# Altium schematic symbol library Jumper.SchLib: 26 symbols
Pins are listed as number, name and electrical type; pins without a type are passive.

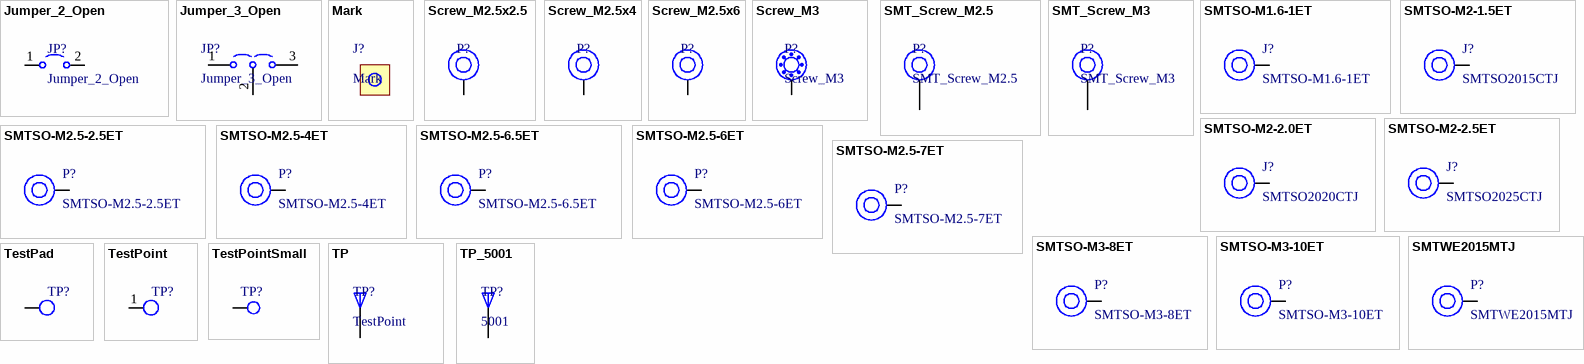
[diagram p0: symbols Jumper_2_Open to TP_5001]

## Jumper_2_Open
designator JP?  (no BOM)
Jumper, 2-pole, open
footprint SolderJumper-2_P1.3mm_Open_RoundedPad1.0x1.5mm
footprint JUMPER_OPEN_2P_1mm
pins: 1, 2

## Jumper_3_Open
designator JP?  (no BOM)
Jumper, 3-pole, open
footprint SolderJumper-3_P1.3mm_Open_RoundedPad1.0x1.5mm
footprint Jumper-3_0402
pins: 1, 2, 3

## Mark
designator J?  (no BOM)
footprint MARK_1mm

## Screw_M2.5x2.5
designator P?  (value not drawn)
footprint M2.5-2.5mm (SMT Steel Spacer, M2.5 Thread Internal, 6mm)
pins: 1

## Screw_M2.5x4
designator P?  (value not drawn)
footprint M2.5-4mm (SMT Steel Spacer, M2.5 Thread Internal, 4mm)
pins: 1

## Screw_M2.5x6
designator P?  (value not drawn)
footprint M2.5-6mm (SMT Steel Spacer, M2.5 Thread Internal, 6mm)
pins: 1

## Screw_M3
designator P?
footprint SCREW_M3
pins: 1

## SMT_Screw_M2.5
designator P?
footprint SMT_Screw_M2.5
pins: 1

## SMT_Screw_M3
designator P?
footprint SMT_SCREW_M3
pins: 1

## SMTSO-M1.6-1ET
designator J?
footprint SMTSO-M1.6-1ET (SMTSO-M2.5-2.5ET)
pins: 1

## SMTSO-M2-1.5ET
designator J?, comment SMTSO2015CTJ
SMT螺母 M2.0 H1.5mm
footprint SMTSO-M2-1.5ET
pins: 1

## SMTSO-M2-2.0ET
designator J?, comment SMTSO2020CTJ
SMT螺母 M2.0 H2.0mm
footprint SMTSO-M2-2.0ET
pins: 1

## SMTSO-M2-2.5ET
designator J?, comment SMTSO2025CTJ
SMT螺母 M2.0 H2.5mm
footprint SMTSO-M2-2.5ET
pins: 1

## SMTSO-M2.5-2.5ET
designator P?
SMT螺母 SMTSO-M2.5-2.5ET
footprint SMTSO-M2.5-2.5ET
pins: 1

## SMTSO-M2.5-4ET
designator P?
SMT螺母 SMTSO-M2.5-4ET
footprint SMTSO-M2.5-4ET (Footprint not found)
pins: 1

## SMTSO-M2.5-6.5ET
designator P?
SMT螺母 SMTSO-M2.5-6.5ET
footprint SMTSO-M2.5-6.5ET
pins: 1

## SMTSO-M2.5-6ET
designator P?
SMT螺母 SMTSO-M2.5-6ET
footprint SMTSO-M2.5-6ET
pins: 1

## SMTSO-M2.5-7ET
designator P?
SMT螺母 SMTSO-M2.5-7ET
footprint SMTSO-M2.5-7ET
pins: 1

## SMTSO-M3-8ET
designator P?
SMT螺母 SMTSO-M3-8ET
footprint SMTSO-M3-8ET (SMTSO-M2.5-7ET)
pins: 1

## SMTSO-M3-10ET
designator P?
SMT螺母 SMTSO-M3-10ET
footprint SMTSO-M3-10ET (SMTSO-M2.5-7ET)
pins: 1

## SMTWE2015MTJ
designator P?
SMT螺母，M2*4.35*1.5+1.4
footprint SMTWE2015MTJ (SMTSO-M2.5-2.5ET)
pins: 1

## TestPad
designator TP?  (value not drawn)  (no BOM)
TestPad Round 1.5mm
footprint Testpad_Round_1.5mm
pins: 1

## TestPoint
designator TP?  (value not drawn)  (no BOM)
footprint TESPPOINT_ROUND_1MM
pins: 1

## TestPointSmall
designator TP?  (value not drawn)  (no BOM)
TestPoint
footprint TESPPOINT_ROUND_1MM
footprint TP_Round_0.7mm
pins: 1

## TP
designator TP?, comment TestPoint  (no BOM)
测试点
footprint TP_0.8mm
footprint TP_1mm
footprint TP_1.5mm
pins: 1

## TP_5001
designator TP?, comment 5001  (no BOM)
测试点
footprint TP_5001
pins: 1